# EAGLE library part LM3478 (library Custom_old)
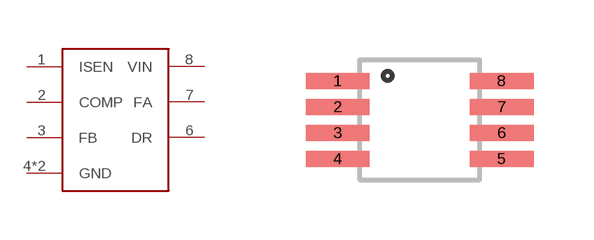
[diagram p16: symbol with the pads of MSOP8; footprint MSOP8]

Designator prefix -

## LM3478  [MSOP8]
1  ISEN
2  COMP
3  FB
4  GND
5  GND
6  DR
7  FA
8  VIN

## Footprint MSOP8 (pad centres in mm)
smd 1.6 x 0.4: 1 -2.05,0.975; 2 -2.05,0.325; 3 -2.05,-0.325; 4 -2.05,-0.975; 5 2.05,-0.975; 6 2.05,-0.325; 7 2.05,0.325; 8 2.05,0.975